# EAGLE library part TL497AC (library Custom)
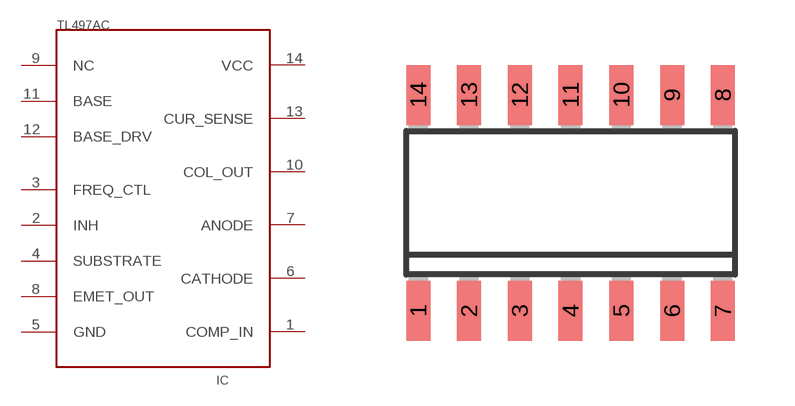
[diagram p19: symbol with the pads of SOIC-14; footprint SOIC-14]

Designator prefix IC

## TL497ACDR  [SOIC-14]
1  COMP_IN  in
2  INH  in
3  FREQ_CTL
4  SUBSTRATE  in
5  GND  pwr
6  CATHODE  in
7  ANODE  out
8  EMET_OUT  pas
9  NC  nc
10  COL_OUT  out
11  BASE  nc
12  BASE_DRV  nc
13  CUR_SENSE
14  VCC  pwr

## Footprint SOIC-14 (pad centres in mm)
SSOP-14, 0.6 x 1.5 mm pad, 1.27mm pad pitch
smd 0.6 x 1.5: 1 -3.81,-2.7; 2 -2.54,-2.7; 3 -1.27,-2.7; 4 0,-2.7; 5 1.27,-2.7; 6 2.54,-2.7; 7 3.81,-2.7; 8 3.81,2.7; 9 2.54,2.7; 10 1.27,2.7; 11 0,2.7; 12 -1.27,2.7; 13 -2.54,2.7; 14 -3.81,2.7